# EAGLE library part DIP_8 (library bschulz)
DIP Switch, 8 Pos
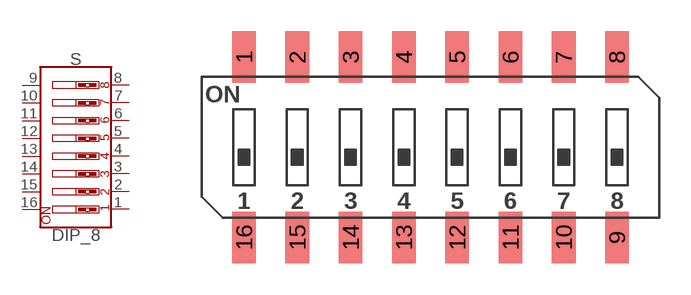
[diagram p139: symbol with the pads of 219-8_GULLWING_DIP-CTS; footprint 219-8_GULLWING_DIP-CTS]

Designator prefix S

## DIP_8219_GULL (DIGIKEY: CT3121CT-ND; MF: CTS; MPN: 219-8MSTR)  [219-8_GULLWING_DIP-CTS]
1  1  pas
2  2  pas
3  3  pas
4  4  pas
5  5  pas
6  6  pas
7  7  pas
8  8  pas
9  9  pas
10  10  pas
11  11  pas
12  12  pas
13  13  pas
14  14  pas
15  15  pas
16  16  pas

## Footprint 219-8_GULLWING_DIP-CTS (pad centres in mm)
DIP Switch, Gull Wing, 8 Pos CTS Datasheet <https://www.ctscorp.com/wp-content/uploads/219.pdf>
smd 1.13 x 2.44: 1 -8.89,4.3; 2 -6.35,4.3; 3 -3.81,4.3; 4 -1.27,4.3; 5 1.27,4.3; 6 3.81,4.3; 7 6.35,4.3; 8 8.89,4.3; 9 8.89,-4.3; 10 6.35,-4.3; 11 3.81,-4.3; 12 1.27,-4.3; 13 -1.27,-4.3; 14 -3.81,-4.3; 15 -6.35,-4.3; 16 -8.89,-4.3